# Altium schematic symbol library RES_P.SchLib: 1 symbol
Pins are listed as number, name and electrical type; pins without a type are passive.

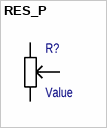
[diagram p0: symbol RES_P]

## RES_P
designator R?  (value not drawn)
Tolerance: Tolerance; Power: Power; Value: Value
pins: 1 2, 2, 3 1